# Altium footprint library TO170P1524X460-6N.PcbLib: 1 footprints
Each footprint in its own frame and in the unit in brackets; x right, y up, seen from the top. Pads: shape width x height; smd on the part's side, far side on the other; paste and mask are expansions set on the pad; w line width, h text height; cw(c..) or ccw(c..) is an arc to the next point about the centre after c.
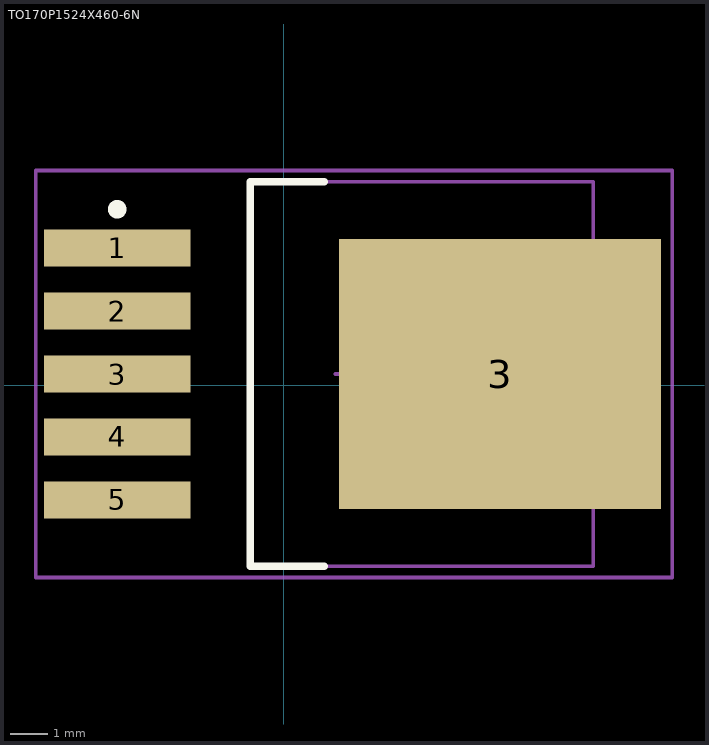
[diagram p0: the footprint, top view; thin cyan lines are the x and y axes]

## TO170P1524X460-6N [mm]
pads (6):
  rect 3.95x1 smd: 1(-4.5,3.704) 2(-4.5,2.002) 3(-4.5,0.3) 4(-4.5,-1.402) 5(-4.5,-3.104)
  rect 8.7x7.3 smd: 3(5.85,0.3)
Top Overlay:
  circle w0.25: c-4.5,4.754 r0.125
  lines w0.2: 1.1,-4.9 -0.9,-4.9 -0.9,5.5 1.1,5.5
Mechanical 13:
  lines w0.1: -0.9,-4.9 8.37,-4.9 8.37,5.5 -0.9,5.5 -0.9,-4.9
Mechanical 15:
  lines w0.1: 1.4,0.3 2.4,0.3 ; 1.9,-0.2 1.9,0.8 ; -6.7,-5.2 10.5,-5.2 10.5,5.8 -6.7,5.8 -6.7,-5.2
3D body: height 4.6, standoff 0.33, extent -0.9,-4.9 8.37,5.5